# EAGLE library part PINHD-1X17 (library pinhead)
PIN HEADER
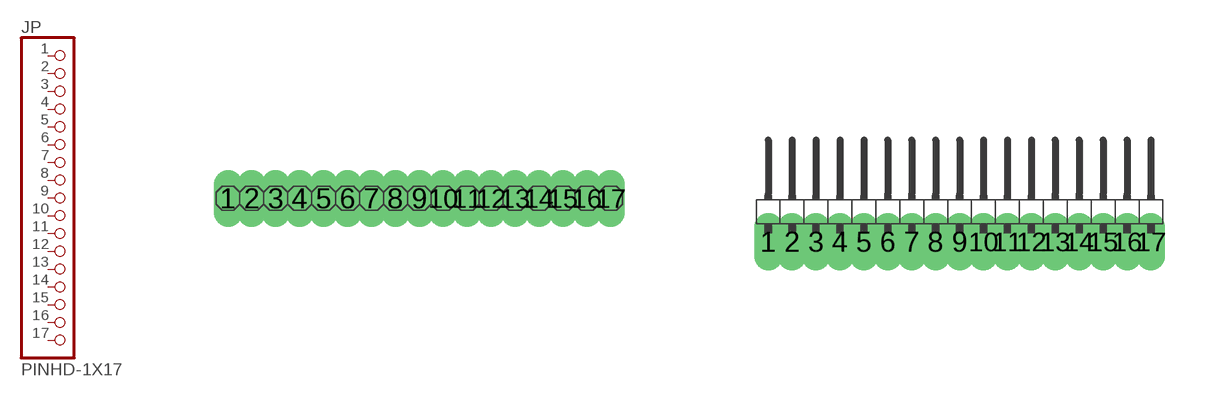
[diagram p11: symbol with the pads of 1X17; footprints 1X17, 1X17/90]

Designator prefix JP

## PINHD-1X17  [1X17]
1  1  pas
2  2  pas
3  3  pas
4  4  pas
5  5  pas
6  6  pas
7  7  pas
8  8  pas
9  9  pas
10  10  pas
11  11  pas
12  12  pas
13  13  pas
14  14  pas
15  15  pas
16  16  pas
17  17  pas

## PINHD-1X17/90  [1X17/90]
Pads as for 1X17

## Footprint 1X17 (pad centres in mm)
PIN HEADER
drill 0.254 long: 1 -5.08,0; 2 -4.445,0; 3 -3.81,0; 4 -3.175,0; 5 -2.54,0; 6 -1.905,0; 7 -1.27,0; 8 -0.635,0; 9 0,0; 10 0.635,0; 11 1.27,0; 12 1.905,0; 13 2.54,0; 14 3.175,0; 15 3.81,0; 16 4.445,0; 17 5.08,0

## Footprint 1X17/90 (pad centres in mm)
PIN HEADER
drill 0.254 long: 1 -5.08,-0.953; 2 -4.445,-0.953; 3 -3.81,-0.953; 4 -3.175,-0.953; 5 -2.54,-0.953; 6 -1.905,-0.953; 7 -1.27,-0.953; 8 -0.635,-0.953; 9 0,-0.953; 10 0.635,-0.953; 11 1.27,-0.953; 12 1.905,-0.953; 13 2.54,-0.953; 14 3.175,-0.953; 15 3.81,-0.953; 16 4.445,-0.953; 17 5.08,-0.953